# EAGLE library part INTEL_EDISON_BB_HEADER (library wearloc)
PIN HEADER
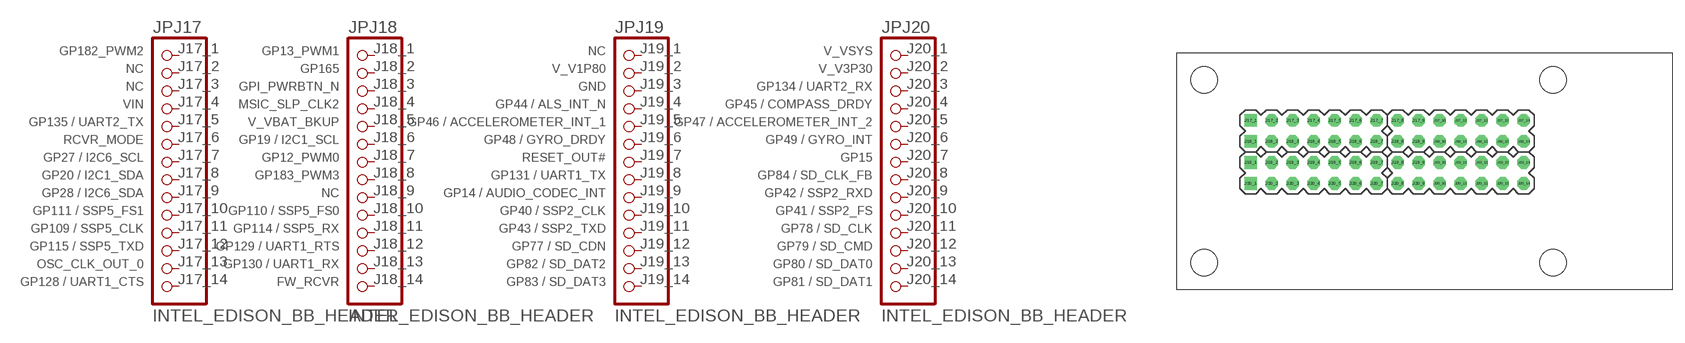
[diagram p3: symbol with the pads of 1X14; footprint 1X14]

Designator prefix JP; gates J17=PINHD14_J17 J18=PINHD14_J18 J19=PINHD14_J19 J20=PINHD14_J20

## INTEL_EDISON_BB_HEADER  [1X14]
J17_1  J17:1
J17_2  J17:2  nc
J17_3  J17:3  nc
J17_4  J17:4
J17_5  J17:5
J17_6  J17:6
J17_7  J17:7
J17_8  J17:8
J17_9  J17:9
J17_10  J17:10
J17_11  J17:11
J17_12  J17:12
J17_13  J17:13
J17_14  J17:14
J18_1  J18:1
J18_2  J18:2
J18_3  J18:3
J18_4  J18:4
J18_5  J18:5
J18_6  J18:6
J18_7  J18:7
J18_8  J18:8
J18_9  J18:9  nc
J18_10  J18:10
J18_11  J18:11
J18_12  J18:12
J18_13  J18:13
J18_14  J18:14
J19_1  J19:1  nc
J19_2  J19:2
J19_3  J19:3
J19_4  J19:4
J19_5  J19:5
J19_6  J19:6
J19_7  J19:7
J19_8  J19:8
J19_9  J19:9
J19_10  J19:10
J19_11  J19:11
J19_12  J19:12
J19_13  J19:13
J19_14  J19:14
J20_1  J20:1
J20_2  J20:2
J20_3  J20:3
J20_4  J20:4
J20_5  J20:5
J20_6  J20:6
J20_7  J20:7
J20_8  J20:8
J20_9  J20:9
J20_10  J20:10
J20_11  J20:11
J20_12  J20:12
J20_13  J20:13
J20_14  J20:14

## Footprint 1X14 (pad centres in mm)
PIN HEADER
drill 1.016 square: J17_1 -16.51,3.81; J18_1 -16.51,1.27; J19_1 -16.51,-1.27; J20_1 -16.51,-3.81
drill 1.016 octagon: J17_2 -13.97,3.81; J17_3 -11.43,3.81; J17_4 -8.89,3.81; J17_5 -6.35,3.81; J17_6 -3.81,3.81; J17_7 -1.27,3.81; J17_8 1.27,3.81; J17_9 3.81,3.81; J17_10 6.35,3.81; J17_11 8.89,3.81; J17_12 11.43,3.81; J17_13 13.97,3.81; J17_14 16.51,3.81; J18_2 -13.97,1.27; J18_3 -11.43,1.27; J18_4 -8.89,1.27; J18_5 -6.35,1.27; J18_6 -3.81,1.27; J18_7 -1.27,1.27; J18_8 1.27,1.27; J18_9 3.81,1.27; J18_10 6.35,1.27; J18_11 8.89,1.27; J18_12 11.43,1.27; J18_13 13.97,1.27; J18_14 16.51,1.27; J19_2 -13.97,-1.27; J19_3 -11.43,-1.27; J19_4 -8.89,-1.27; J19_5 -6.35,-1.27; J19_6 -3.81,-1.27; J19_7 -1.27,-1.27; J19_8 1.27,-1.27; J19_9 3.81,-1.27; J19_10 6.35,-1.27; J19_11 8.89,-1.27; J19_12 11.43,-1.27; J19_13 13.97,-1.27; J19_14 16.51,-1.27; J20_2 -13.97,-3.81; J20_3 -11.43,-3.81; J20_4 -8.89,-3.81; J20_5 -6.35,-3.81; J20_6 -3.81,-3.81; J20_7 -1.27,-3.81; J20_8 1.27,-3.81; J20_9 3.81,-3.81; J20_10 6.35,-3.81; J20_11 8.89,-3.81; J20_12 11.43,-3.81; J20_13 13.97,-3.81; J20_14 16.51,-3.81
hole 3.2 at -22.1,8.7
hole 3.2 at -22.1,-13.4
hole 3.2 at 20.05,-13.4
hole 3.2 at 20.05,8.7